# Altium footprint library ES_Pcb_x.PcbLib: 354 footprints (part 11 of 23)
Each footprint in its own frame and in the unit in brackets; x right, y up, seen from the top. Pads: shape width x height; smd on the part's side, far side on the other; paste and mask are expansions set on the pad; w line width, h text height; cw(c..) or ccw(c..) is an arc to the next point about the centre after c.
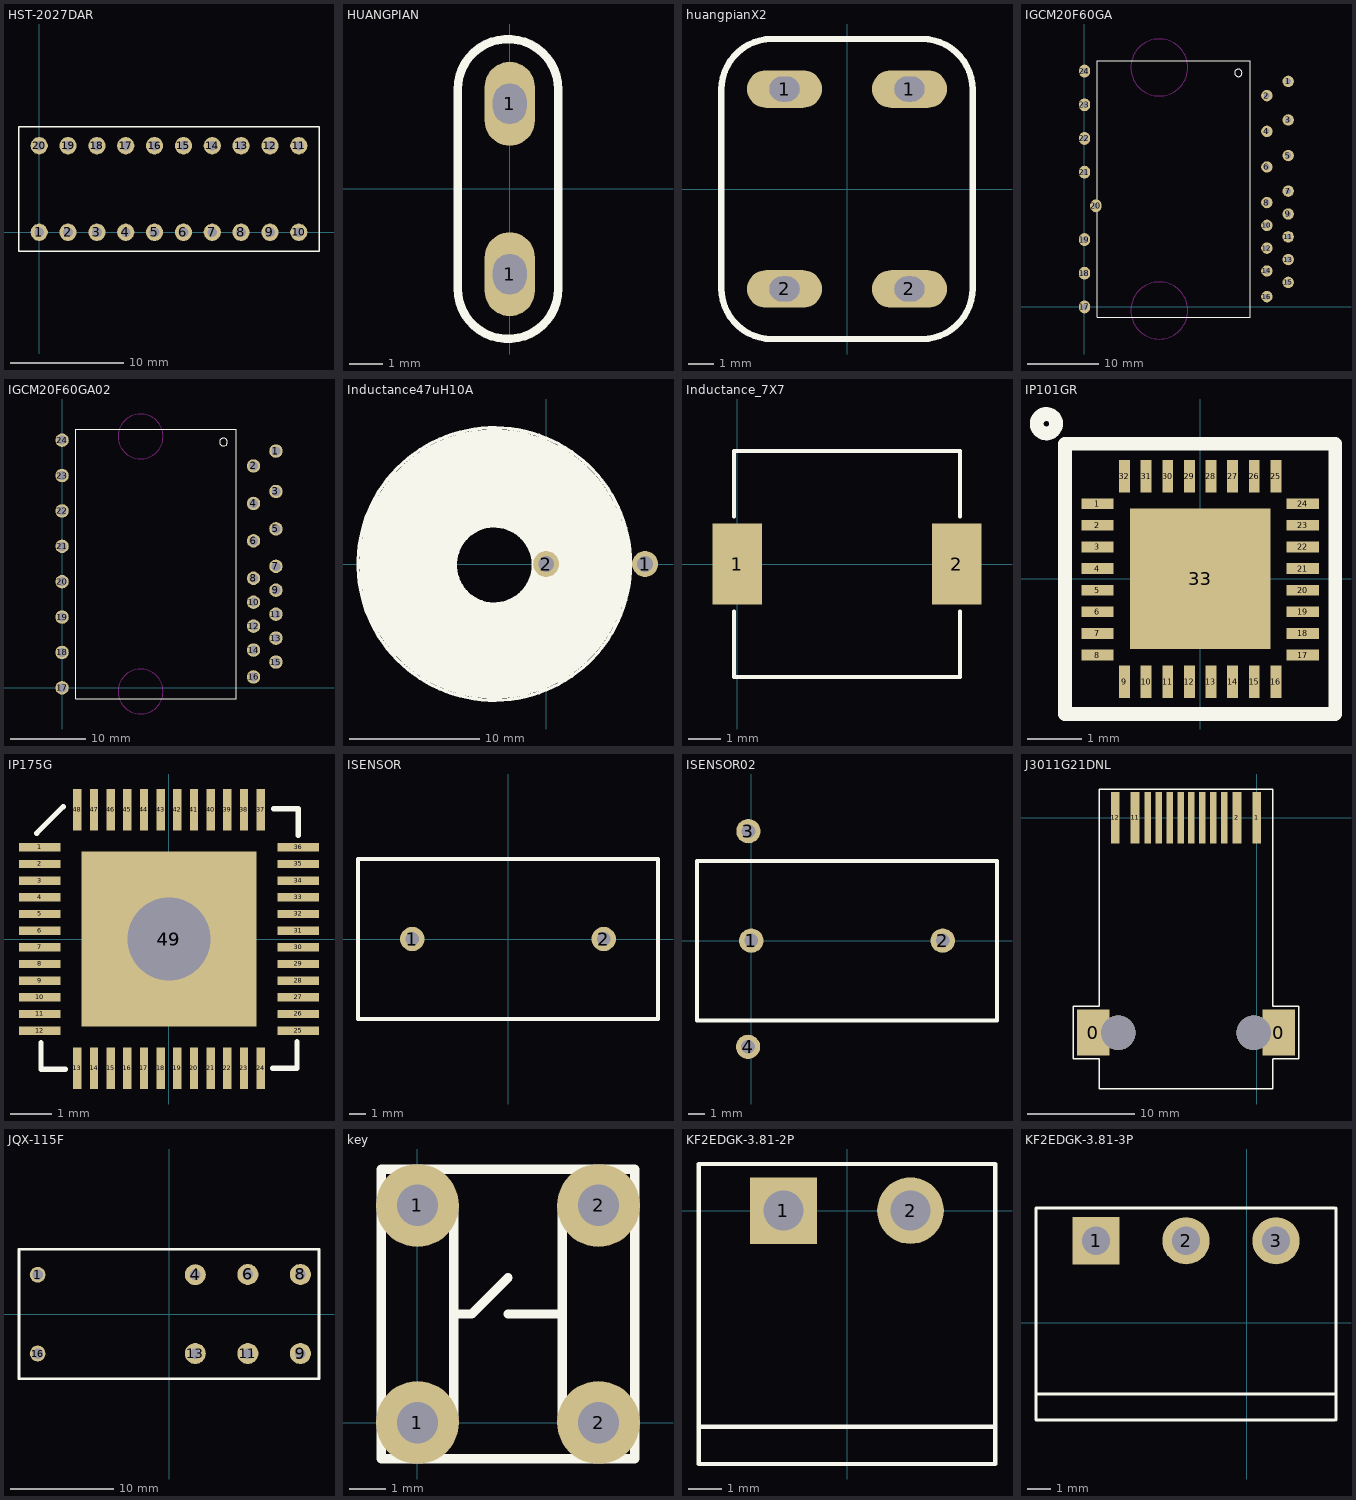
[diagram p10: the footprints below, top view; thin cyan lines are the x and y axes]

## HST-2027DAR [mil]
pads (20):
  round 60 hole 34: 1(0,0) 2(100,0) 3(200,0) 4(300,0) 5(400,0) 6(500,0) 7(600,0) 8(700,0) 9(800,0) 10(900,0) 11(900,300) 12(800,300) 13(700,300) 14(600,300) 15(500,300) 16(400,300) 17(300,300) 18(200,300) 19(100,300) 20(0,300)
Top Overlay:
  lines w5: -70,-66.53 -70,366.54 970,366.54 970,-66.53 -70,-66.53

## HUANGPIAN [mm]
pads (2):
  oval 1.5x2.5 hole 1 slot 1.2 at 90 deg: 1(0,-2.54) 1(0,2.54)
Top Overlay:
  lines w0.254: -1.552,-2.972 ccw(c-0.052,-2.972) 1.448,-2.972 1.448,2.972 ccw(c-0.052,2.972) -1.552,2.972 -1.552,-2.972

## huangpianX2 [mm]
pads (4):
  oval 3x1.5 hole 1 slot 1.2 at 0 deg: 1(-2.5,4) 1(2.5,4) 2(-2.5,-4) 2(2.5,-4)
Top Overlay:
  lines w0.254: -5.023,-3.977 ccw(c-3,-3.977) -3,-6 3,-6 ccw(c3,-3.977) 5.023,-3.977 5.023,3.977 ccw(c3,3.977) 3,6 -3,6 ccw(c-3,3.977) -5.023,3.977 -5.023,-3.977

## IGCM20F60GA [mm]
pads (24):
  round 1.6 hole 0.8: 1(28.6,31.66) 2(25.6,29.66) 3(28.6,26.25) 4(25.6,24.65) 5(28.6,21.25) 6(25.6,19.65) 7(28.6,16.25) 8(25.6,14.65) 9(28.6,13.05) 10(25.6,11.45) 11(28.6,9.85) 12(25.6,8.25) 13(28.6,6.65) 14(25.6,5.05) 15(28.6,3.45) 16(25.6,1.45)
  oval 1.6x1.8 hole 0.8: 17(0,0) 18(0,4.73) 19(0,9.46) 20(1.6,14.19) 21(0,18.92) 22(0,23.65) 23(0,28.38) 24(0,33.11)
Top Overlay:
  circle w0.127: c21.59,32.856 r0.524
  lines w0.127: 1.8,-1.45 23.3,-1.45 23.3,34.56 1.8,34.56 1.8,-1.45
Keep-Out Layer:
  circle w0.127: c10.5,33.61 r4
  circle w0.127: c10.5,-0.5 r4

## IGCM20F60GA02 [mm]
pads (24):
  round 1.8 hole 1.2: 1(28.6,31.66) 2(25.6,29.66) 3(28.6,26.25) 4(25.6,24.65) 5(28.6,21.25) 6(25.6,19.65) 7(28.6,16.25) 8(25.6,14.65) 9(28.6,13.05) 10(25.6,11.45) 11(28.6,9.85) 12(25.6,8.25) 13(28.6,6.65) 14(25.6,5.05) 15(28.6,3.45) 16(25.6,1.45) 17(0,0) 18(0,4.73) 19(0,9.46) 20(0,14.19) 21(0,18.92) 22(0,23.65) 23(0,28.38) 24(0,33.11)
Top Overlay:
  circle w0.127: c21.59,32.856 r0.524
  lines w0.127: 1.8,-1.45 1.8,34.56 23.3,34.56 23.3,-1.45 1.8,-1.45
Keep-Out Layer:
  circle w0.127: c10.5,-0.5 r3
  circle w0.127: c10.5,33.61 r3

## Inductance47uH10A [mm]
pads (2):
  round 2 hole 1.2: 1(7.62,0) 2(0,0)
Top Overlay:
  circle w7.35: c-4,0 r6.7
  circle w0.254: c-4,0 r10.5
  circle w0.254: c-4,-0.076 r3

## Inductance_7X7 [mm]
pads (2):
  rect 1.524x2.5 smd: 1(0,0) 2(6.8,0)
Top Overlay:
  lines w0.127: -0.1,-1.468 -0.1,-3.5 6.9,-3.5 6.9,-1.468 ; -0.1,1.468 -0.1,3.5 6.9,3.5 6.9,1.468

## IP101GR [mm]
pads (33):
  rect 0.6x0.2 smd: 1(-1.9,1.39) 2(-1.9,0.99) 3(-1.9,0.59) 4(-1.9,0.19) 5(-1.9,-0.21) 6(-1.9,-0.61) 7(-1.9,-1.01) 8(-1.9,-1.41) 17(1.9,-1.41) 18(1.9,-1.01) 19(1.9,-0.61) 20(1.9,-0.21) 21(1.9,0.19) 22(1.9,0.59) 23(1.9,0.99) 24(1.9,1.39)
  rect 0.2x0.6 smd: 9(-1.4,-1.9) 10(-1,-1.9) 11(-0.6,-1.9) 12(-0.2,-1.9) 13(0.2,-1.9) 14(0.6,-1.9) 15(1,-1.9) 16(1.4,-1.9) 25(1.4,1.9) 26(1,1.9) 27(0.6,1.9) 28(0.2,1.9) 29(-0.2,1.9) 30(-0.6,1.9) 31(-1,1.9) 32(-1.4,1.9)
  rect 2.6x2.6 smd: 33(0,0)
Top Overlay:
  circle w0.254: c-2.845,2.87 r0.18
  lines w0.254: -2.5,-2.5 2.5,-2.5 2.5,2.5 -2.5,2.5 -2.5,-2.5

## IP175G [mm]
pads (50):
  rect 1x0.2 smd: 1(-3.1,2.2) 2(-3.1,1.8) 3(-3.1,1.4) 4(-3.1,1) 5(-3.1,0.6) 6(-3.1,0.2) 7(-3.1,-0.2) 8(-3.1,-0.6) 9(-3.1,-1) 10(-3.1,-1.4) 11(-3.1,-1.8) 12(-3.1,-2.2) 25(3.1,-2.2) 26(3.1,-1.8) 27(3.1,-1.4) 28(3.1,-1) 29(3.1,-0.6) 30(3.1,-0.2) 31(3.1,0.2) 32(3.1,0.6) 33(3.1,1) 34(3.1,1.4) 35(3.1,1.8) 36(3.1,2.2)
  rect 0.2x1 smd: 13(-2.2,-3.1) 14(-1.8,-3.1) 15(-1.4,-3.1) 16(-1,-3.1) 17(-0.6,-3.1) 18(-0.2,-3.1) 19(0.2,-3.1) 20(0.6,-3.1) 21(1,-3.1) 22(1.4,-3.1) 23(1.8,-3.1) 24(2.2,-3.1) 37(2.2,3.1) 38(1.8,3.1) 39(1.4,3.1) 40(1,3.1) 41(0.6,3.1) 42(0.2,3.1) 43(-0.2,3.1) 44(-0.6,3.1) 45(-1,3.1) 46(-1.4,3.1) 47(-1.8,3.1) 48(-2.2,3.1)
  rect 4.2x4.2 smd: 49(0,0)
  round 3 hole 2: 49(0,0)
Top Overlay:
  lines w0.127: -3.175,2.54 -2.54,3.175 ; -3.073,-2.489 -3.073,-3.124 -2.489,-3.124 ; 2.489,-3.099 3.073,-3.099 3.073,-2.464 ; 2.515,3.124 3.099,3.124 3.099,2.489

## ISENSOR [mil]
pads (2):
  round 60 hole 34: 1(-236.22,0) 2(236.22,0)
Top Overlay:
  lines w10: -370.08,-196.85 -370.08,196.85 370.08,196.85 370.08,-196.85 -370.08,-196.85

## ISENSOR02 [mil]
pads (4):
  round 60 hole 34: 1(0,0) 2(472.44,0) 3(-7,270) 4(-8,-262)
Top Overlay:
  lines w10: -133.86,-196.85 606.3,-196.85 606.3,196.85 -133.86,196.85 -133.86,-196.85

## J3011G21DNL [mm]
pads (14):
  rect 3.048x4.318 smd: 0(-15.281,-20.114) 0(2.06,-20.114)
  rect 0.81x4.826 smd: 1(0,0) 2(-1.84,0) 11(-11.38,0) 12(-13.22,0)
  rect 0.61x4.826 smd: 3(-3.04,0) 4(-4.06,0) 5(-5.08,0) 6(-6.1,0) 7(-7.12,0) 8(-8.14,0) 9(-9.16,0) 10(-10.18,0)
via -12.961,-20.114 diameter 3.25 hole 3.25
via -0.261,-20.114 diameter 3.25 hole 3.25
Top Overlay:
  lines w0.127: 1.49,-22.606 1.49,-25.394 -14.711,-25.394 -14.711,-22.569 -16.253,-22.569 -17.152,-22.569 -17.152,-17.66 -14.711,-17.66 -14.711,2.695 1.49,2.695 1.49,-17.66 3.93,-17.66 3.93,-22.569 1.49,-22.569 ; -17.011,-22.569 -17.01,-22.569

## JQX-115F [mil]
pads (8):
  round 60 hole 40: 1(-500,149.5) 16(-500,-150.5)
  round 80 hole 40: 4(100,149.5) 6(300,150.5) 8(500,150.5) 9(500,-150.5) 11(300,-150.5) 13(100,-150.5)
Top Overlay:
  lines w10: -570.87,-246.06 570.87,-246.06 570.87,246.06 -570.87,246.06 -570.87,-246.06

## key [mil]
pads (4):
  round 90 hole 45: 1(0,0) 1(0,236.22) 2(196.85,0) 2(196.85,236.22)
Top Overlay:
  lines w10: 39.37,0 39.37,236.22 ; 39.37,118.11 59.06,118.11 98.43,157.48 ; 98.43,118.11 157.48,118.11 ; 157.48,0 157.48,236.22 ; -39.37,-39.37 236.22,-39.37 236.22,275.59 -39.37,275.59 -39.37,-39.37

## KF2EDGK-3.81-2P [mm]
pads (2):
  rect 2x2 hole 1.2: 1(-1.905,0)
  round 2 hole 1.2: 2(1.905,0)
Top Overlay:
  lines w0.127: -4.45,-6.482 4.45,-6.482 ; -4.45,-7.6 4.45,-7.6 4.45,1.4 -4.45,1.4 -4.45,-7.6

## KF2EDGK-3.81-3P [mm]
pads (3):
  rect 2x2 hole 1.2: 1(-6.375,3.48)
  round 2 hole 1.2: 2(-2.565,3.48) 3(1.248,3.48)
Top Overlay:
  lines w0.127: -8.92,-3.003 3.759,-3.003 ; 3.734,-4.12 -8.92,-4.12 -8.92,4.88 3.734,4.88 ; 3.788,-4.12 3.788,4.88